# Altium footprint library library_fixes.PcbLib: 2 footprints
Each footprint in its own frame and in the unit in brackets; x right, y up, seen from the top. Pads: shape width x height; smd on the part's side, far side on the other; paste and mask are expansions set on the pad; w line width, h text height; cw(c..) or ccw(c..) is an arc to the next point about the centre after c.
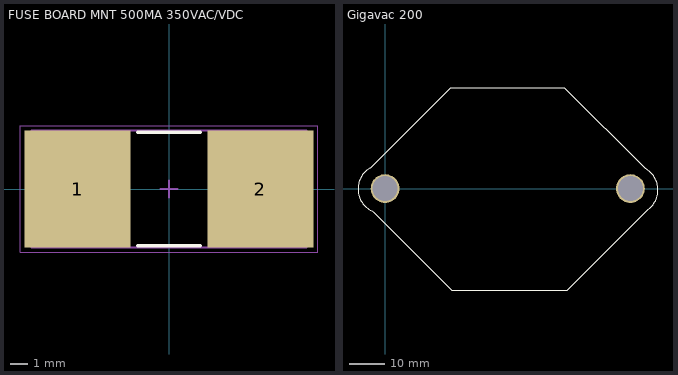
[diagram p0: the footprints below, top view; thin cyan lines are the x and y axes]

## FUSE BOARD MNT 500MA 350VAC/VDC [mm]
height 4.25
pads (2):
  rect 6.1x6.75 smd: 1(-5.25,0) 2(5.25,0)
Top Overlay:
  lines w0.2: -1.8,-3.275 1.8,-3.275 ; -1.8,3.275 1.8,3.275
Mechanical 13:
  lines w0.1: -7.925,-3.365 7.925,-3.365 7.925,3.365 -7.925,3.365 -7.925,-3.365
Mechanical 15:
  lines w0.05: -8.55,-3.65 8.55,-3.65 8.55,3.65 -8.55,3.65 -8.55,-3.65
  lines w0.1: -0.5,0 0.5,0 ; 0,-0.5 0,0.5
3D body: height 4.25, standoff 0, extent 2.295,-3.365 7.925,3.365
3D body: height 4.25, standoff 0, extent -7.925,-3.365 -2.295,3.365
3D body: height 4.25, standoff 0, extent -2.295,-3.365 2.295,3.365

## Gigavac 200 [mm]
pads (2):
  round 8 hole 7: ""(0,0) ""(68.3,0)
Top Overlay:
  lines w0.254: -3.942,5.854 ccw(c-0.762,-0.127) -3.322,-6.399 ; -3.935,5.84 18.293,28.067 49.911,28.067 72.39,5.588 ; -3.273,-6.506 18.542,-28.321 50.668,-28.321 73.15,-5.84 ; 72.396,5.6 cw(c69.215,-0.381) 72.966,-6.022
3D body "GV200_step_121715.STEP": height 184.32, standoff 0.11, extent -6.016,-28.003 89.328,28.004
3D body: height 8.13, standoff -4.06, extent 23.495,4.064 23.495,4.064
3D body: height 8.13, standoff -4.06, extent 23.495,4.064 23.495,4.064
3D body: height 8.13, standoff -4.06, extent 23.622,4.318 23.622,4.318